# EAGLE library part USB_MICRO_KYORITU (library 08_CONECTOR)
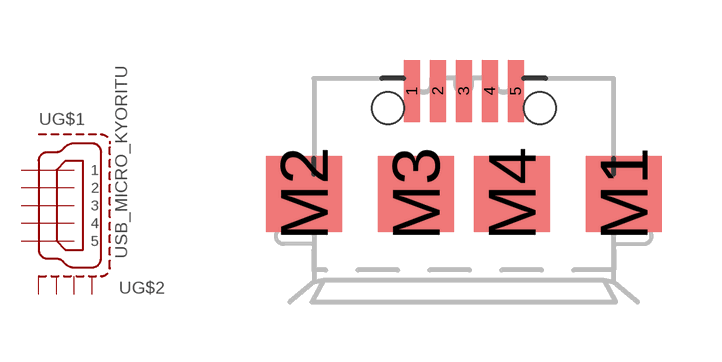
[diagram p16: symbol with the pads of USB_MICRO_KYORITU; footprint USB_MICRO_KYORITU]

Designator prefix -; gates G$1=USB G$2=USB_SHIELD

## USB_MICRO_KYORITU  [USB_MICRO_KYORITU]
1  G$1:1  in
2  G$1:2  in
3  G$1:3  in
4  G$1:4  in
5  G$1:5  in
M1  G$2:S1  pas
M2  G$2:S2  pas
M3  G$2:S3  pas
M4  G$2:S4  pas

## Footprint USB_MICRO_KYORITU (pad centres in mm)
smd 0.4 x 1.55: 1 -1.3,-0.775; 2 -0.65,-0.775; 3 0,-0.775; 4 0.65,-0.775; 5 1.3,-0.775
smd 1.9 x 1.9: M1 4,-3.35; M2 -4,-3.35; M3 -1.2,-3.35; M4 1.2,-3.35
hole 0.8 at -1.9,-1.2
hole 0.8 at 1.9,-1.2